# Altium integrated library Linear Technology Power Management LDO Linear Regulators.IntLib: 2339 symbols (part 47 of 131)
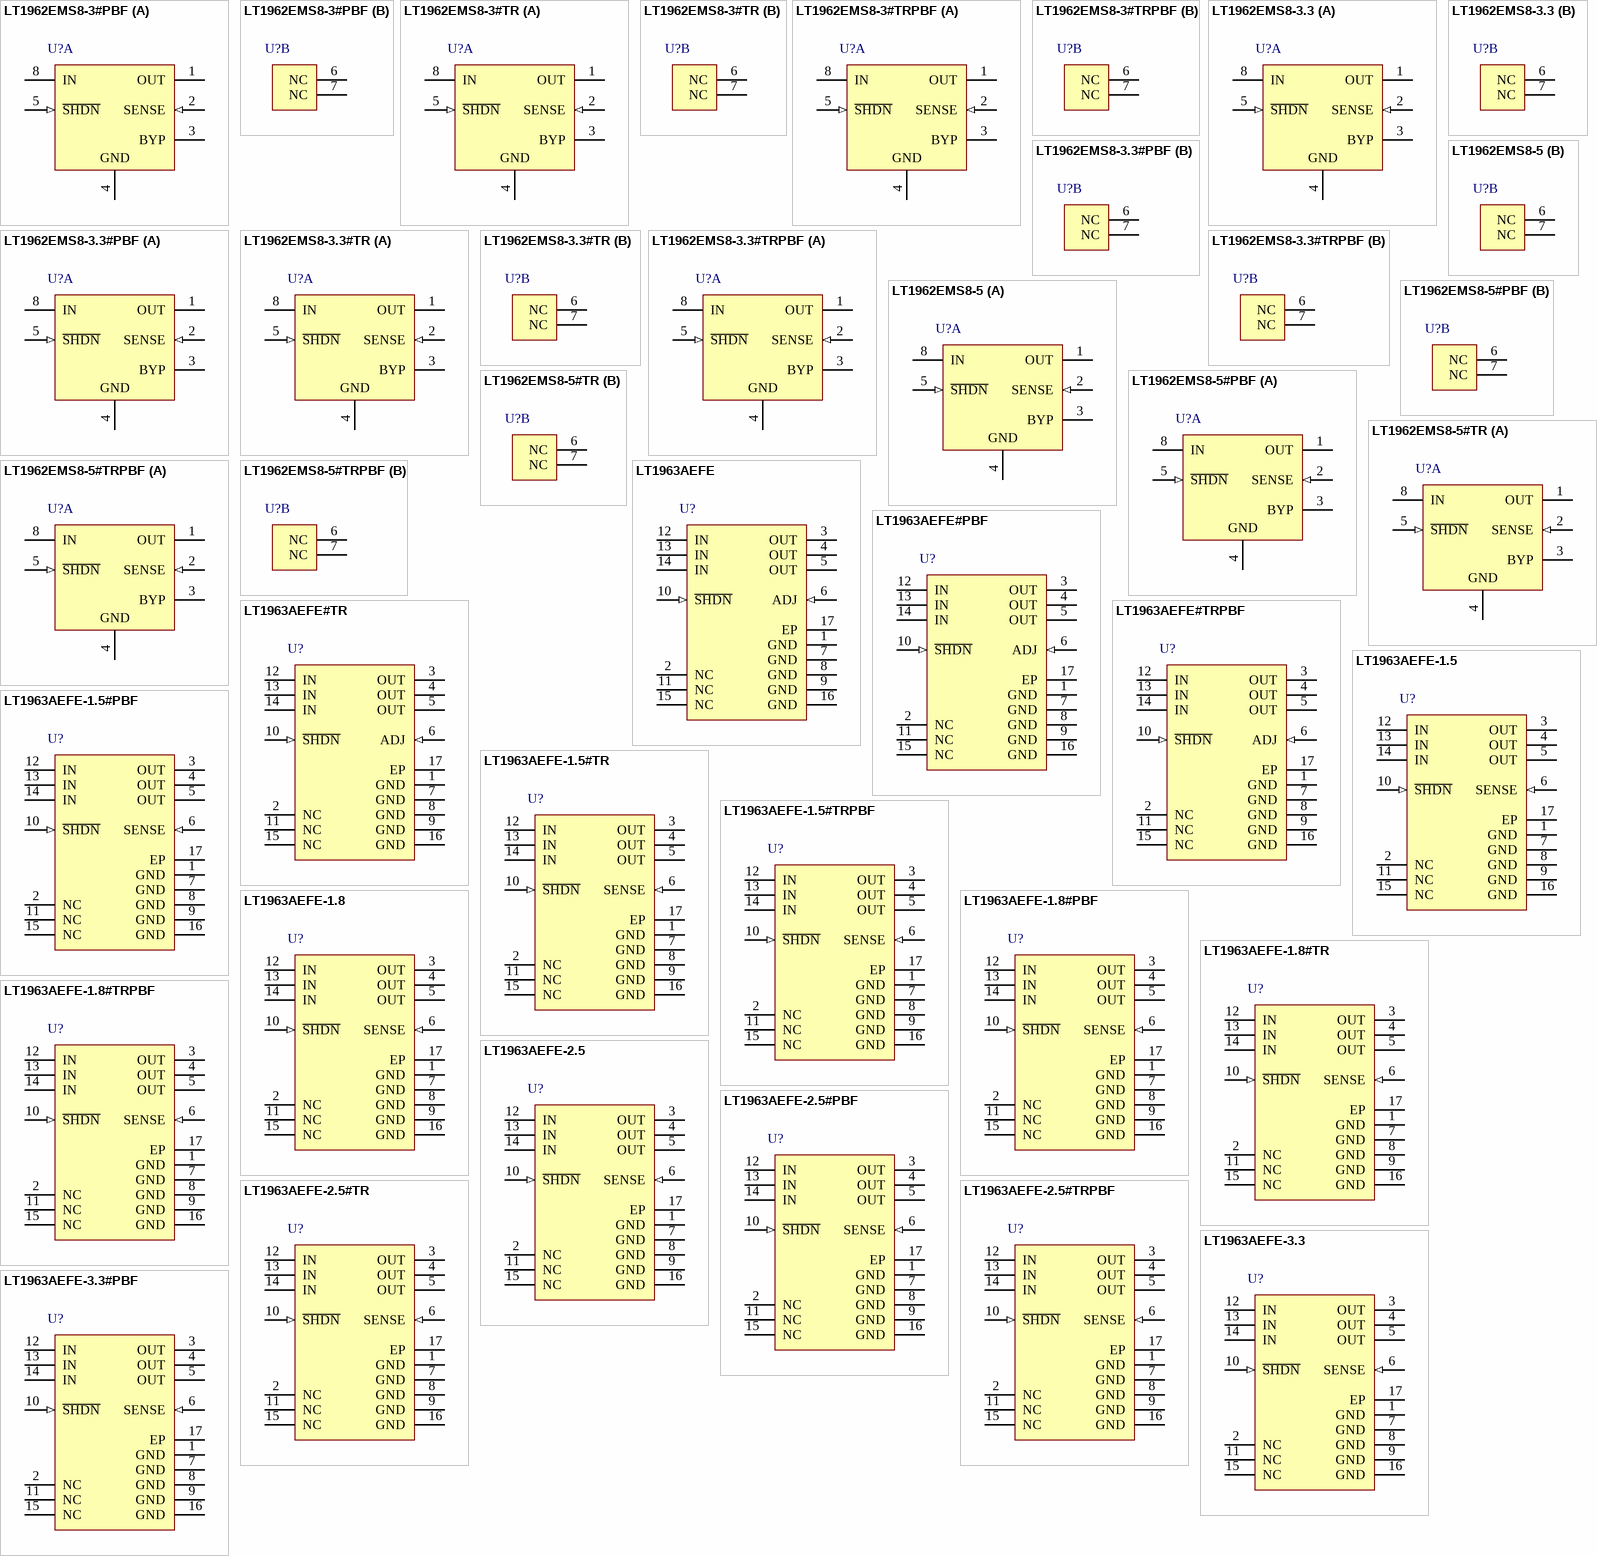
[diagram p115: symbols LT1962EMS8-3#PBF to LT1963AEFE-3.3#PBF]

## LT1962EMS8-3#TRPBF
designator U?
300 mA, Low Noise, Micropower LDO Regulator, 1.8 to 20 V Vin, 3 V Vout, 8-pin SOP (MS8-8), -40 to 125 degC, Pb-Free, Tape and Reel; Manufacturer: Linear Technology; PartNumber: LT1962EMS8-3#TRPBF; Discrete Pass Element: no; Dropout Voltage(V): 0.27; Iout(mA): 300; Isupply(mA): 0.03; Noise(uV): 20; Number of Outputs: 1; Output Voltage: 3 V; PSRR(dB): 65; Shutdown Current(uA): 0.1; Vin Min(V): 1.8; DatasheetVersion: Rev. A; PackageVersion: Rev. G, 03/2012; PackageReference: MS8-8; PackageDescription: 8-Pin Plastic MSOP, Body 3 x 3 mm, Pitch 0.65 mm; Supplier 1: Digi-Key; Supplier Part Number 1: LT1962EMS8-3#TRPBF-ND; Supplier 2: Newark; Supplier Part Number 2: 57M7399; Packing: Tape and Reel; RoHS: TRUE; Vin Max(V): 20; Mounting Technology: Surface Mount; ComponentLink1Description: Manufacturer URL; ComponentLink1URL: http://www.linear.com/; ComponentLink2Description: Datasheet; ComponentLink2URL: http://cds.linear.com/docs/en/datasheet/1962fas.pdf; ComponentLink3Description: Package Specification; ComponentLink3URL: http://cds.linear.com/docs/en/packaging/05081660_G_MS8.pdf
footprint LT-MS8-8_N (SOP, 8-Leads, Body 3x3mm, Pitch 0.65mm, IPC Medium Density)
footprint LT-MS8-8_L (SOP, 8-Leads, Body 3x3mm, Pitch 0.65mm, IPC High Density)
footprint LT-MS8-8_M (SOP, 8-Leads, Body 3x3mm, Pitch 0.65mm, IPC Low Density)
part A pins: 1 OUT (power) "Output. The output supplies power to the load.", 2 SENSE (in) "Sense. For fixed voltage versions, the SENSE pin is the input to the error amplifier. Optimum regulation will be obtained at the point where the SENSE pin is connected to the OUT pin of the regulator. In critical (See Datasheet)", 3 BYP "Bypass. The BYP pin is used to bypass the reference of the LT1762 regulators to achieve low noise performance from the regulator. The BYP pin is clamped internally to +/-0.6V (one VBE). A small capacitor from the output to (See Datasheet)", 4 GND (power) "Ground.", 5 ~{SHDN} (in) "Shutdown. The S\H\D\N\ pin is used to put the regulators into a low power shutdown state. The output will be off when the S\H\D\N\ pin is pulled low. The S\H\D\N\ pin can be driven either by 5V logic or opencollector logic (See Datasheet)", 8 IN (power) "Input. Power is supplied to the device through the IN pin. A bypass capacitor is required on this pin if the device is more than six inches away from the main input filter capacitor. In general, the output impedance of a (See Datasheet)"
part B pins: 6 NC, 7 NC

## LT1962EMS8-3.3
designator U?
300 mA, Low Noise, Micropower LDO Regulator, 1.8 to 20 V Vin, 3.3 V Vout, 8-pin SOP (MS8-8), -40 to 125 degC; Manufacturer: Linear Technology; PartNumber: LT1962EMS8-3.3; Discrete Pass Element: no; Dropout Voltage(V): 0.27; Iout(mA): 300; Isupply(mA): 0.03; Noise(uV): 20; Number of Outputs: 1; Output Voltage: 3.3 V; PSRR(dB): 65; Shutdown Current(uA): 0.1; Vin Min(V): 1.8; DatasheetVersion: Rev. A; PackageVersion: Rev. G, 03/2012; PackageReference: MS8-8; PackageDescription: 8-Pin Plastic MSOP, Body 3 x 3 mm, Pitch 0.65 mm; Supplier 1: Digi-Key; Supplier Part Number 1: LT1962EMS8-3.3-ND; Supplier 2: Newark; Supplier Part Number 2: 57M7393; RoHS: FALSE; Vin Max(V): 20; Mounting Technology: Surface Mount; ComponentLink1Description: Manufacturer URL; ComponentLink1URL: http://www.linear.com/; ComponentLink2Description: Datasheet; ComponentLink2URL: http://cds.linear.com/docs/en/datasheet/1962fas.pdf; ComponentLink3Description: Package Specification; ComponentLink3URL: http://cds.linear.com/docs/en/packaging/05081660_G_MS8.pdf
footprint LT-MS8-8_N (SOP, 8-Leads, Body 3x3mm, Pitch 0.65mm, IPC Medium Density)
footprint LT-MS8-8_L (SOP, 8-Leads, Body 3x3mm, Pitch 0.65mm, IPC High Density)
footprint LT-MS8-8_M (SOP, 8-Leads, Body 3x3mm, Pitch 0.65mm, IPC Low Density)
part A pins: 1 OUT (power) "Output. The output supplies power to the load.", 2 SENSE (in) "Sense. For fixed voltage versions, the SENSE pin is the input to the error amplifier. Optimum regulation will be obtained at the point where the SENSE pin is connected to the OUT pin of the regulator. In critical (See Datasheet)", 3 BYP "Bypass. The BYP pin is used to bypass the reference of the LT1762 regulators to achieve low noise performance from the regulator. The BYP pin is clamped internally to +/-0.6V (one VBE). A small capacitor from the output to (See Datasheet)", 4 GND (power) "Ground.", 5 ~{SHDN} (in) "Shutdown. The S\H\D\N\ pin is used to put the regulators into a low power shutdown state. The output will be off when the S\H\D\N\ pin is pulled low. The S\H\D\N\ pin can be driven either by 5V logic or opencollector logic (See Datasheet)", 8 IN (power) "Input. Power is supplied to the device through the IN pin. A bypass capacitor is required on this pin if the device is more than six inches away from the main input filter capacitor. In general, the output impedance of a (See Datasheet)"
part B pins: 6 NC, 7 NC

## LT1962EMS8-3.3#PBF
designator U?
300 mA, Low Noise, Micropower LDO Regulator, 1.8 to 20 V Vin, 3.3 V Vout, 8-pin SOP (MS8-8), -40 to 125 degC, Pb-Free; Manufacturer: Linear Technology; PartNumber: LT1962EMS8-3.3#PBF; Discrete Pass Element: no; Dropout Voltage(V): 0.27; Iout(mA): 300; Isupply(mA): 0.03; Noise(uV): 20; Number of Outputs: 1; Output Voltage: 3.3 V; PSRR(dB): 65; Shutdown Current(uA): 0.1; Vin Min(V): 1.8; DatasheetVersion: Rev. A; PackageVersion: Rev. G, 03/2012; PackageReference: MS8-8; PackageDescription: 8-Pin Plastic MSOP, Body 3 x 3 mm, Pitch 0.65 mm; Supplier 1: Digi-Key; Supplier Part Number 1: LT1962EMS8-3.3#PBF-ND; Supplier 2: Farnell; Supplier Part Number 2: 1663521; Supplier 3: Newark; Supplier Part Number 3: 57M7394; RoHS: TRUE; Vin Max(V): 20; Mounting Technology: Surface Mount; ComponentLink1Description: Manufacturer URL; ComponentLink1URL: http://www.linear.com/; ComponentLink2Description: Datasheet; ComponentLink2URL: http://cds.linear.com/docs/en/datasheet/1962fas.pdf; ComponentLink3Description: Package Specification; ComponentLink3URL: http://cds.linear.com/docs/en/packaging/05081660_G_MS8.pdf
footprint LT-MS8-8_N (SOP, 8-Leads, Body 3x3mm, Pitch 0.65mm, IPC Medium Density)
footprint LT-MS8-8_L (SOP, 8-Leads, Body 3x3mm, Pitch 0.65mm, IPC High Density)
footprint LT-MS8-8_M (SOP, 8-Leads, Body 3x3mm, Pitch 0.65mm, IPC Low Density)
part A pins: 1 OUT (power) "Output. The output supplies power to the load.", 2 SENSE (in) "Sense. For fixed voltage versions, the SENSE pin is the input to the error amplifier. Optimum regulation will be obtained at the point where the SENSE pin is connected to the OUT pin of the regulator. In critical (See Datasheet)", 3 BYP "Bypass. The BYP pin is used to bypass the reference of the LT1762 regulators to achieve low noise performance from the regulator. The BYP pin is clamped internally to +/-0.6V (one VBE). A small capacitor from the output to (See Datasheet)", 4 GND (power) "Ground.", 5 ~{SHDN} (in) "Shutdown. The S\H\D\N\ pin is used to put the regulators into a low power shutdown state. The output will be off when the S\H\D\N\ pin is pulled low. The S\H\D\N\ pin can be driven either by 5V logic or opencollector logic (See Datasheet)", 8 IN (power) "Input. Power is supplied to the device through the IN pin. A bypass capacitor is required on this pin if the device is more than six inches away from the main input filter capacitor. In general, the output impedance of a (See Datasheet)"
part B pins: 6 NC, 7 NC

## LT1962EMS8-3.3#TR
designator U?
300 mA, Low Noise, Micropower LDO Regulator, 1.8 to 20 V Vin, 3.3 V Vout, 8-pin SOP (MS8-8), -40 to 125 degC, Tape and Reel; Manufacturer: Linear Technology; PartNumber: LT1962EMS8-3.3#TR; Discrete Pass Element: no; Dropout Voltage(V): 0.27; Iout(mA): 300; Isupply(mA): 0.03; Noise(uV): 20; Number of Outputs: 1; Output Voltage: 3.3 V; PSRR(dB): 65; Shutdown Current(uA): 0.1; Vin Min(V): 1.8; DatasheetVersion: Rev. A; PackageVersion: Rev. G, 03/2012; PackageReference: MS8-8; PackageDescription: 8-Pin Plastic MSOP, Body 3 x 3 mm, Pitch 0.65 mm; Supplier 1: Digi-Key; Supplier Part Number 1: LT1962EMS8-3.3TR-ND; Supplier 2: Newark; Supplier Part Number 2: 57M7395; Packing: Tape and Reel; RoHS: FALSE; Vin Max(V): 20; Mounting Technology: Surface Mount; ComponentLink1Description: Manufacturer URL; ComponentLink1URL: http://www.linear.com/; ComponentLink2Description: Datasheet; ComponentLink2URL: http://cds.linear.com/docs/en/datasheet/1962fas.pdf; ComponentLink3Description: Package Specification; ComponentLink3URL: http://cds.linear.com/docs/en/packaging/05081660_G_MS8.pdf
footprint LT-MS8-8_N (SOP, 8-Leads, Body 3x3mm, Pitch 0.65mm, IPC Medium Density)
footprint LT-MS8-8_L (SOP, 8-Leads, Body 3x3mm, Pitch 0.65mm, IPC High Density)
footprint LT-MS8-8_M (SOP, 8-Leads, Body 3x3mm, Pitch 0.65mm, IPC Low Density)
part A pins: 1 OUT (power) "Output. The output supplies power to the load.", 2 SENSE (in) "Sense. For fixed voltage versions, the SENSE pin is the input to the error amplifier. Optimum regulation will be obtained at the point where the SENSE pin is connected to the OUT pin of the regulator. In critical (See Datasheet)", 3 BYP "Bypass. The BYP pin is used to bypass the reference of the LT1762 regulators to achieve low noise performance from the regulator. The BYP pin is clamped internally to +/-0.6V (one VBE). A small capacitor from the output to (See Datasheet)", 4 GND (power) "Ground.", 5 ~{SHDN} (in) "Shutdown. The S\H\D\N\ pin is used to put the regulators into a low power shutdown state. The output will be off when the S\H\D\N\ pin is pulled low. The S\H\D\N\ pin can be driven either by 5V logic or opencollector logic (See Datasheet)", 8 IN (power) "Input. Power is supplied to the device through the IN pin. A bypass capacitor is required on this pin if the device is more than six inches away from the main input filter capacitor. In general, the output impedance of a (See Datasheet)"
part B pins: 6 NC, 7 NC

## LT1962EMS8-3.3#TRPBF
designator U?
300 mA, Low Noise, Micropower LDO Regulator, 1.8 to 20 V Vin, 3.3 V Vout, 8-pin SOP (MS8-8), -40 to 125 degC, Pb-Free, Tape and Reel; Manufacturer: Linear Technology; PartNumber: LT1962EMS8-3.3#TRPBF; Discrete Pass Element: no; Dropout Voltage(V): 0.27; Iout(mA): 300; Isupply(mA): 0.03; Noise(uV): 20; Number of Outputs: 1; Output Voltage: 3.3 V; PSRR(dB): 65; Shutdown Current(uA): 0.1; Vin Min(V): 1.8; DatasheetVersion: Rev. A; PackageVersion: Rev. G, 03/2012; PackageReference: MS8-8; PackageDescription: 8-Pin Plastic MSOP, Body 3 x 3 mm, Pitch 0.65 mm; Supplier 1: Digi-Key; Supplier Part Number 1: LT1962EMS8-3.3#TRPBF-ND; Supplier 2: Newark; Supplier Part Number 2: 57M7396; Packing: Tape and Reel; RoHS: TRUE; Vin Max(V): 20; Mounting Technology: Surface Mount; ComponentLink1Description: Manufacturer URL; ComponentLink1URL: http://www.linear.com/; ComponentLink2Description: Datasheet; ComponentLink2URL: http://cds.linear.com/docs/en/datasheet/1962fas.pdf; ComponentLink3Description: Package Specification; ComponentLink3URL: http://cds.linear.com/docs/en/packaging/05081660_G_MS8.pdf
footprint LT-MS8-8_N (SOP, 8-Leads, Body 3x3mm, Pitch 0.65mm, IPC Medium Density)
footprint LT-MS8-8_L (SOP, 8-Leads, Body 3x3mm, Pitch 0.65mm, IPC High Density)
footprint LT-MS8-8_M (SOP, 8-Leads, Body 3x3mm, Pitch 0.65mm, IPC Low Density)
part A pins: 1 OUT (power) "Output. The output supplies power to the load.", 2 SENSE (in) "Sense. For fixed voltage versions, the SENSE pin is the input to the error amplifier. Optimum regulation will be obtained at the point where the SENSE pin is connected to the OUT pin of the regulator. In critical (See Datasheet)", 3 BYP "Bypass. The BYP pin is used to bypass the reference of the LT1762 regulators to achieve low noise performance from the regulator. The BYP pin is clamped internally to +/-0.6V (one VBE). A small capacitor from the output to (See Datasheet)", 4 GND (power) "Ground.", 5 ~{SHDN} (in) "Shutdown. The S\H\D\N\ pin is used to put the regulators into a low power shutdown state. The output will be off when the S\H\D\N\ pin is pulled low. The S\H\D\N\ pin can be driven either by 5V logic or opencollector logic (See Datasheet)", 8 IN (power) "Input. Power is supplied to the device through the IN pin. A bypass capacitor is required on this pin if the device is more than six inches away from the main input filter capacitor. In general, the output impedance of a (See Datasheet)"
part B pins: 6 NC, 7 NC

## LT1962EMS8-5
designator U?
300 mA, Low Noise, Micropower LDO Regulator, 1.8 to 20 V Vin, 5 V Vout, 8-pin SOP (MS8-8), -40 to 125 degC; Manufacturer: Linear Technology; PartNumber: LT1962EMS8-5; Discrete Pass Element: no; Dropout Voltage(V): 0.27; Iout(mA): 300; Isupply(mA): 0.03; Noise(uV): 20; Number of Outputs: 1; Output Voltage: 5 V; PSRR(dB): 65; Shutdown Current(uA): 0.1; Vin Min(V): 1.8; DatasheetVersion: Rev. A; PackageVersion: Rev. G, 03/2012; PackageReference: MS8-8; PackageDescription: 8-Pin Plastic MSOP, Body 3 x 3 mm, Pitch 0.65 mm; Supplier 1: Digi-Key; Supplier Part Number 1: LT1962EMS8-5-ND; Supplier 2: Newark; Supplier Part Number 2: 57M7400; RoHS: FALSE; Vin Max(V): 20; Mounting Technology: Surface Mount; ComponentLink1Description: Manufacturer URL; ComponentLink1URL: http://www.linear.com/; ComponentLink2Description: Datasheet; ComponentLink2URL: http://cds.linear.com/docs/en/datasheet/1962fas.pdf; ComponentLink3Description: Package Specification; ComponentLink3URL: http://cds.linear.com/docs/en/packaging/05081660_G_MS8.pdf
footprint LT-MS8-8_N (SOP, 8-Leads, Body 3x3mm, Pitch 0.65mm, IPC Medium Density)
footprint LT-MS8-8_L (SOP, 8-Leads, Body 3x3mm, Pitch 0.65mm, IPC High Density)
footprint LT-MS8-8_M (SOP, 8-Leads, Body 3x3mm, Pitch 0.65mm, IPC Low Density)
part A pins: 1 OUT (power) "Output. The output supplies power to the load.", 2 SENSE (in) "Sense. For fixed voltage versions, the SENSE pin is the input to the error amplifier. Optimum regulation will be obtained at the point where the SENSE pin is connected to the OUT pin of the regulator. In critical (See Datasheet)", 3 BYP "Bypass. The BYP pin is used to bypass the reference of the LT1762 regulators to achieve low noise performance from the regulator. The BYP pin is clamped internally to +/-0.6V (one VBE). A small capacitor from the output to (See Datasheet)", 4 GND (power) "Ground.", 5 ~{SHDN} (in) "Shutdown. The S\H\D\N\ pin is used to put the regulators into a low power shutdown state. The output will be off when the S\H\D\N\ pin is pulled low. The S\H\D\N\ pin can be driven either by 5V logic or opencollector logic (See Datasheet)", 8 IN (power) "Input. Power is supplied to the device through the IN pin. A bypass capacitor is required on this pin if the device is more than six inches away from the main input filter capacitor. In general, the output impedance of a (See Datasheet)"
part B pins: 6 NC, 7 NC

## LT1962EMS8-5#PBF
designator U?
300 mA, Low Noise, Micropower LDO Regulator, 1.8 to 20 V Vin, 5 V Vout, 8-pin SOP (MS8-8), -40 to 125 degC, Pb-Free; Manufacturer: Linear Technology; PartNumber: LT1962EMS8-5#PBF; Discrete Pass Element: no; Dropout Voltage(V): 0.27; Iout(mA): 300; Isupply(mA): 0.03; Noise(uV): 20; Number of Outputs: 1; Output Voltage: 5 V; PSRR(dB): 65; Shutdown Current(uA): 0.1; Vin Min(V): 1.8; DatasheetVersion: Rev. A; PackageVersion: Rev. G, 03/2012; PackageReference: MS8-8; PackageDescription: 8-Pin Plastic MSOP, Body 3 x 3 mm, Pitch 0.65 mm; Supplier 1: Digi-Key; Supplier Part Number 1: LT1962EMS8-5#PBF-ND; Supplier 2: Farnell; Supplier Part Number 2: 1273624; Supplier 3: Newark; Supplier Part Number 3: 57M7401; RoHS: TRUE; Vin Max(V): 20; Mounting Technology: Surface Mount; ComponentLink1Description: Manufacturer URL; ComponentLink1URL: http://www.linear.com/; ComponentLink2Description: Datasheet; ComponentLink2URL: http://cds.linear.com/docs/en/datasheet/1962fas.pdf; ComponentLink3Description: Package Specification; ComponentLink3URL: http://cds.linear.com/docs/en/packaging/05081660_G_MS8.pdf
footprint LT-MS8-8_N (SOP, 8-Leads, Body 3x3mm, Pitch 0.65mm, IPC Medium Density)
footprint LT-MS8-8_L (SOP, 8-Leads, Body 3x3mm, Pitch 0.65mm, IPC High Density)
footprint LT-MS8-8_M (SOP, 8-Leads, Body 3x3mm, Pitch 0.65mm, IPC Low Density)
part A pins: 1 OUT (power) "Output. The output supplies power to the load.", 2 SENSE (in) "Sense. For fixed voltage versions, the SENSE pin is the input to the error amplifier. Optimum regulation will be obtained at the point where the SENSE pin is connected to the OUT pin of the regulator. In critical (See Datasheet)", 3 BYP "Bypass. The BYP pin is used to bypass the reference of the LT1762 regulators to achieve low noise performance from the regulator. The BYP pin is clamped internally to +/-0.6V (one VBE). A small capacitor from the output to (See Datasheet)", 4 GND (power) "Ground.", 5 ~{SHDN} (in) "Shutdown. The S\H\D\N\ pin is used to put the regulators into a low power shutdown state. The output will be off when the S\H\D\N\ pin is pulled low. The S\H\D\N\ pin can be driven either by 5V logic or opencollector logic (See Datasheet)", 8 IN (power) "Input. Power is supplied to the device through the IN pin. A bypass capacitor is required on this pin if the device is more than six inches away from the main input filter capacitor. In general, the output impedance of a (See Datasheet)"
part B pins: 6 NC, 7 NC

## LT1962EMS8-5#TR
designator U?
300 mA, Low Noise, Micropower LDO Regulator, 1.8 to 20 V Vin, 5 V Vout, 8-pin SOP (MS8-8), -40 to 125 degC, Tape and Reel; Manufacturer: Linear Technology; PartNumber: LT1962EMS8-5#TR; Discrete Pass Element: no; Dropout Voltage(V): 0.27; Iout(mA): 300; Isupply(mA): 0.03; Noise(uV): 20; Number of Outputs: 1; Output Voltage: 5 V; PSRR(dB): 65; Shutdown Current(uA): 0.1; Vin Min(V): 1.8; DatasheetVersion: Rev. A; PackageVersion: Rev. G, 03/2012; PackageReference: MS8-8; PackageDescription: 8-Pin Plastic MSOP, Body 3 x 3 mm, Pitch 0.65 mm; Supplier 1: Digi-Key; Supplier Part Number 1: LT1962EMS8-5TR-ND; Supplier 2: Newark; Supplier Part Number 2: 57M7402; Packing: Tape and Reel; RoHS: FALSE; Vin Max(V): 20; Mounting Technology: Surface Mount; ComponentLink1Description: Manufacturer URL; ComponentLink1URL: http://www.linear.com/; ComponentLink2Description: Datasheet; ComponentLink2URL: http://cds.linear.com/docs/en/datasheet/1962fas.pdf; ComponentLink3Description: Package Specification; ComponentLink3URL: http://cds.linear.com/docs/en/packaging/05081660_G_MS8.pdf
footprint LT-MS8-8_N (SOP, 8-Leads, Body 3x3mm, Pitch 0.65mm, IPC Medium Density)
footprint LT-MS8-8_L (SOP, 8-Leads, Body 3x3mm, Pitch 0.65mm, IPC High Density)
footprint LT-MS8-8_M (SOP, 8-Leads, Body 3x3mm, Pitch 0.65mm, IPC Low Density)
part A pins: 1 OUT (power) "Output. The output supplies power to the load.", 2 SENSE (in) "Sense. For fixed voltage versions, the SENSE pin is the input to the error amplifier. Optimum regulation will be obtained at the point where the SENSE pin is connected to the OUT pin of the regulator. In critical (See Datasheet)", 3 BYP "Bypass. The BYP pin is used to bypass the reference of the LT1762 regulators to achieve low noise performance from the regulator. The BYP pin is clamped internally to +/-0.6V (one VBE). A small capacitor from the output to (See Datasheet)", 4 GND (power) "Ground.", 5 ~{SHDN} (in) "Shutdown. The S\H\D\N\ pin is used to put the regulators into a low power shutdown state. The output will be off when the S\H\D\N\ pin is pulled low. The S\H\D\N\ pin can be driven either by 5V logic or opencollector logic (See Datasheet)", 8 IN (power) "Input. Power is supplied to the device through the IN pin. A bypass capacitor is required on this pin if the device is more than six inches away from the main input filter capacitor. In general, the output impedance of a (See Datasheet)"
part B pins: 6 NC, 7 NC

## LT1962EMS8-5#TRPBF
designator U?
300 mA, Low Noise, Micropower LDO Regulator, 1.8 to 20 V Vin, 5 V Vout, 8-pin SOP (MS8-8), -40 to 125 degC, Pb-Free, Tape and Reel; Manufacturer: Linear Technology; PartNumber: LT1962EMS8-5#TRPBF; Discrete Pass Element: no; Dropout Voltage(V): 0.27; Iout(mA): 300; Isupply(mA): 0.03; Noise(uV): 20; Number of Outputs: 1; Output Voltage: 5 V; PSRR(dB): 65; Shutdown Current(uA): 0.1; Vin Min(V): 1.8; DatasheetVersion: Rev. A; PackageVersion: Rev. G, 03/2012; PackageReference: MS8-8; PackageDescription: 8-Pin Plastic MSOP, Body 3 x 3 mm, Pitch 0.65 mm; Supplier 1: Digi-Key; Supplier Part Number 1: LT1962EMS8-5#TRPBF-ND; Supplier 2: Newark; Supplier Part Number 2: 57M7403; Packing: Tape and Reel; RoHS: TRUE; Vin Max(V): 20; Mounting Technology: Surface Mount; ComponentLink1Description: Manufacturer URL; ComponentLink1URL: http://www.linear.com/; ComponentLink2Description: Datasheet; ComponentLink2URL: http://cds.linear.com/docs/en/datasheet/1962fas.pdf; ComponentLink3Description: Package Specification; ComponentLink3URL: http://cds.linear.com/docs/en/packaging/05081660_G_MS8.pdf
footprint LT-MS8-8_N (SOP, 8-Leads, Body 3x3mm, Pitch 0.65mm, IPC Medium Density)
footprint LT-MS8-8_L (SOP, 8-Leads, Body 3x3mm, Pitch 0.65mm, IPC High Density)
footprint LT-MS8-8_M (SOP, 8-Leads, Body 3x3mm, Pitch 0.65mm, IPC Low Density)
part A pins: 1 OUT (power) "Output. The output supplies power to the load.", 2 SENSE (in) "Sense. For fixed voltage versions, the SENSE pin is the input to the error amplifier. Optimum regulation will be obtained at the point where the SENSE pin is connected to the OUT pin of the regulator. In critical (See Datasheet)", 3 BYP "Bypass. The BYP pin is used to bypass the reference of the LT1762 regulators to achieve low noise performance from the regulator. The BYP pin is clamped internally to +/-0.6V (one VBE). A small capacitor from the output to (See Datasheet)", 4 GND (power) "Ground.", 5 ~{SHDN} (in) "Shutdown. The S\H\D\N\ pin is used to put the regulators into a low power shutdown state. The output will be off when the S\H\D\N\ pin is pulled low. The S\H\D\N\ pin can be driven either by 5V logic or opencollector logic (See Datasheet)", 8 IN (power) "Input. Power is supplied to the device through the IN pin. A bypass capacitor is required on this pin if the device is more than six inches away from the main input filter capacitor. In general, the output impedance of a (See Datasheet)"
part B pins: 6 NC, 7 NC

## LT1963AEFE
designator U?
1.5 A, Low Noise, Fast Transient Response LDO Regulator, 2.1 to 20 V Vin, Adjustable Vout, 16-pin SOP (FE-16-EPV-BB), -40 to 125 degC; Manufacturer: Linear Technology; PartNumber: LT1963AEFE; Discrete Pass Element: no; Dropout Voltage(V): 0.34; Iout(mA): 1500; Isupply(mA): 1; Noise(uV): 40; Output Voltage: Adj; PSRR(dB): 63; Shutdown Current(uA): 0.01; Vin Max(V): 20; Vin Min(V): 2.1; Vout Min(V): 1.21; DatasheetVersion: Rev. E; PackageVersion: Rev. J, 11/2012; PackageReference: FE-16; PackageDescription: 16-Pin Plastic TSSOP, Body 5 x 4.4 mm, Pitch 0.65 mm; Supplier 1: Newark; Supplier Part Number 1: 57M7407; Number of Outputs: 1; RoHS: FALSE; Vout Max(V): 20; Mounting Technology: Surface Mount; ComponentLink1Description: Manufacturer URL; ComponentLink1URL: http://www.linear.com/; ComponentLink2Description: Datasheet; ComponentLink2URL: http://cds.linear.com/docs/en/datasheet/1963afe.pdf; ComponentLink3Description: Package Specification; ComponentLink3URL: http://cds.linear.com/docs/en/packaging/05081663__J_FE16(BB).pdf
footprint LT-FE-16-EPV-BB_N (SOP, 16-Leads, Body 5.1x4.5mm, Pitch 0.65mm, Thermal Pad 3.58x2.94mm, IPC Medium Density)
footprint LT-FE-16-EPV-BB_L (SOP, 16-Leads, Body 5.1x4.5mm, Pitch 0.65mm, Thermal Pad 3.58x2.94mm, IPC High Density)
footprint LT-FE-16-EPV-BB_M (SOP, 16-Leads, Body 5.1x4.5mm, Pitch 0.65mm, Thermal Pad 3.58x2.94mm, IPC Low Density)
pins: 1 GND (power), 2 NC, 3 OUT (power) "Output. The output supplies power to the load. A minimum output capacitor of 10uF is required to prevent oscillations. Larger output capacitors will be required for applications with large transient loads to limit peak (See Datasheet)", 4 OUT (power) "Output. The output supplies power to the load. A minimum output capacitor of 10uF is required to prevent oscillations. Larger output capacitors will be required for applications with large transient loads to limit peak (See Datasheet)", 5 OUT (power) "Output. The output supplies power to the load. A minimum output capacitor of 10uF is required to prevent oscillations. Larger output capacitors will be required for applications with large transient loads to limit peak (See Datasheet)", 6 ADJ (in) "Adjust.", 7 GND (power), 8 GND (power), 9 GND (power), 10 ~{SHDN} (in) "Shutdown.", 11 NC, 12 IN (power) "Input. Power is supplied to the device through the IN pin. A bypass capacitor is required on this pin if the device is more than six inches away from the main input filter capacitor. In general, the output impedance of a (See Datasheet)", 13 IN (power) "Input. Power is supplied to the device through the IN pin. A bypass capacitor is required on this pin if the device is more than six inches away from the main input filter capacitor. In general, the output impedance of a (See Datasheet)", 14 IN (power) "Input. Power is supplied to the device through the IN pin. A bypass capacitor is required on this pin if the device is more than six inches away from the main input filter capacitor. In general, the output impedance of a (See Datasheet)", 15 NC, 16 GND (power), 17 EP (power)

## LT1963AEFE#PBF
designator U?
1.5 A, Low Noise, Fast Transient Response LDO Regulator, 2.1 to 20 V Vin, Adjustable Vout, 16-pin SOP (FE-16-EPV-BB), -40 to 125 degC, Pb-Free; Manufacturer: Linear Technology; PartNumber: LT1963AEFE#PBF; Discrete Pass Element: no; Dropout Voltage(V): 0.34; Iout(mA): 1500; Isupply(mA): 1; Noise(uV): 40; Output Voltage: Adj; PSRR(dB): 63; Shutdown Current(uA): 0.01; Vin Max(V): 20; Vin Min(V): 2.1; Vout Min(V): 1.21; DatasheetVersion: Rev. E; PackageVersion: Rev. J, 11/2012; PackageReference: FE-16; PackageDescription: 16-Pin Plastic TSSOP, Body 5 x 4.4 mm, Pitch 0.65 mm; Supplier 1: Digi-Key; Supplier Part Number 1: LT1963AEFE#PBF-ND; Supplier 2: Farnell; Supplier Part Number 2: 2254859; Supplier 3: Newark; Supplier Part Number 3: 57M7424; Number of Outputs: 1; RoHS: TRUE; Vout Max(V): 20; Mounting Technology: Surface Mount; ComponentLink1Description: Manufacturer URL; ComponentLink1URL: http://www.linear.com/; ComponentLink2Description: Datasheet; ComponentLink2URL: http://cds.linear.com/docs/en/datasheet/1963afe.pdf; ComponentLink3Description: Package Specification; ComponentLink3URL: http://cds.linear.com/docs/en/packaging/05081663__J_FE16(BB).pdf
footprint LT-FE-16-EPV-BB_N (SOP, 16-Leads, Body 5.1x4.5mm, Pitch 0.65mm, Thermal Pad 3.58x2.94mm, IPC Medium Density)
footprint LT-FE-16-EPV-BB_L (SOP, 16-Leads, Body 5.1x4.5mm, Pitch 0.65mm, Thermal Pad 3.58x2.94mm, IPC High Density)
footprint LT-FE-16-EPV-BB_M (SOP, 16-Leads, Body 5.1x4.5mm, Pitch 0.65mm, Thermal Pad 3.58x2.94mm, IPC Low Density)
pins: 1 GND (power), 2 NC, 3 OUT (power) "Output. The output supplies power to the load. A minimum output capacitor of 10uF is required to prevent oscillations. Larger output capacitors will be required for applications with large transient loads to limit peak (See Datasheet)", 4 OUT (power) "Output. The output supplies power to the load. A minimum output capacitor of 10uF is required to prevent oscillations. Larger output capacitors will be required for applications with large transient loads to limit peak (See Datasheet)", 5 OUT (power) "Output. The output supplies power to the load. A minimum output capacitor of 10uF is required to prevent oscillations. Larger output capacitors will be required for applications with large transient loads to limit peak (See Datasheet)", 6 ADJ (in) "Adjust.", 7 GND (power), 8 GND (power), 9 GND (power), 10 ~{SHDN} (in) "Shutdown.", 11 NC, 12 IN (power) "Input. Power is supplied to the device through the IN pin. A bypass capacitor is required on this pin if the device is more than six inches away from the main input filter capacitor. In general, the output impedance of a (See Datasheet)", 13 IN (power) "Input. Power is supplied to the device through the IN pin. A bypass capacitor is required on this pin if the device is more than six inches away from the main input filter capacitor. In general, the output impedance of a (See Datasheet)", 14 IN (power) "Input. Power is supplied to the device through the IN pin. A bypass capacitor is required on this pin if the device is more than six inches away from the main input filter capacitor. In general, the output impedance of a (See Datasheet)", 15 NC, 16 GND (power), 17 EP (power)

## LT1963AEFE#TR
designator U?
1.5 A, Low Noise, Fast Transient Response LDO Regulator, 2.1 to 20 V Vin, Adjustable Vout, 16-pin SOP (FE-16-EPV-BB), -40 to 125 degC, Tape and Reel; Manufacturer: Linear Technology; PartNumber: LT1963AEFE#TR; Discrete Pass Element: no; Dropout Voltage(V): 0.34; Iout(mA): 1500; Isupply(mA): 1; Noise(uV): 40; Output Voltage: Adj; PSRR(dB): 63; Shutdown Current(uA): 0.01; Vin Max(V): 20; Vin Min(V): 2.1; Vout Min(V): 1.21; DatasheetVersion: Rev. E; PackageVersion: Rev. J, 11/2012; PackageReference: FE-16; PackageDescription: 16-Pin Plastic TSSOP, Body 5 x 4.4 mm, Pitch 0.65 mm; Supplier 1: Newark; Supplier Part Number 1: 57M7425; Number of Outputs: 1; Packing: Tape and Reel; RoHS: FALSE; Vout Max(V): 20; Mounting Technology: Surface Mount; ComponentLink1Description: Manufacturer URL; ComponentLink1URL: http://www.linear.com/; ComponentLink2Description: Datasheet; ComponentLink2URL: http://cds.linear.com/docs/en/datasheet/1963afe.pdf; ComponentLink3Description: Package Specification; ComponentLink3URL: http://cds.linear.com/docs/en/packaging/05081663__J_FE16(BB).pdf
footprint LT-FE-16-EPV-BB_N (SOP, 16-Leads, Body 5.1x4.5mm, Pitch 0.65mm, Thermal Pad 3.58x2.94mm, IPC Medium Density)
footprint LT-FE-16-EPV-BB_L (SOP, 16-Leads, Body 5.1x4.5mm, Pitch 0.65mm, Thermal Pad 3.58x2.94mm, IPC High Density)
footprint LT-FE-16-EPV-BB_M (SOP, 16-Leads, Body 5.1x4.5mm, Pitch 0.65mm, Thermal Pad 3.58x2.94mm, IPC Low Density)
pins: 1 GND (power), 2 NC, 3 OUT (power) "Output. The output supplies power to the load. A minimum output capacitor of 10uF is required to prevent oscillations. Larger output capacitors will be required for applications with large transient loads to limit peak (See Datasheet)", 4 OUT (power) "Output. The output supplies power to the load. A minimum output capacitor of 10uF is required to prevent oscillations. Larger output capacitors will be required for applications with large transient loads to limit peak (See Datasheet)", 5 OUT (power) "Output. The output supplies power to the load. A minimum output capacitor of 10uF is required to prevent oscillations. Larger output capacitors will be required for applications with large transient loads to limit peak (See Datasheet)", 6 ADJ (in) "Adjust.", 7 GND (power), 8 GND (power), 9 GND (power), 10 ~{SHDN} (in) "Shutdown.", 11 NC, 12 IN (power) "Input. Power is supplied to the device through the IN pin. A bypass capacitor is required on this pin if the device is more than six inches away from the main input filter capacitor. In general, the output impedance of a (See Datasheet)", 13 IN (power) "Input. Power is supplied to the device through the IN pin. A bypass capacitor is required on this pin if the device is more than six inches away from the main input filter capacitor. In general, the output impedance of a (See Datasheet)", 14 IN (power) "Input. Power is supplied to the device through the IN pin. A bypass capacitor is required on this pin if the device is more than six inches away from the main input filter capacitor. In general, the output impedance of a (See Datasheet)", 15 NC, 16 GND (power), 17 EP (power)

## LT1963AEFE#TRPBF
designator U?
1.5 A, Low Noise, Fast Transient Response LDO Regulator, 2.1 to 20 V Vin, Adjustable Vout, 16-pin SOP (FE-16-EPV-BB), -40 to 125 degC, Pb-Free, Tape and Reel; Manufacturer: Linear Technology; PartNumber: LT1963AEFE#TRPBF; Discrete Pass Element: no; Dropout Voltage(V): 0.34; Iout(mA): 1500; Isupply(mA): 1; Noise(uV): 40; Output Voltage: Adj; PSRR(dB): 63; Shutdown Current(uA): 0.01; Vin Max(V): 20; Vin Min(V): 2.1; Vout Min(V): 1.21; DatasheetVersion: Rev. E; PackageVersion: Rev. J, 11/2012; PackageReference: FE-16; PackageDescription: 16-Pin Plastic TSSOP, Body 5 x 4.4 mm, Pitch 0.65 mm; Supplier 1: Digi-Key; Supplier Part Number 1: LT1963AEFE#TRPBF-ND; Supplier 2: Newark; Supplier Part Number 2: 57M7426; Number of Outputs: 1; Packing: Tape and Reel; RoHS: TRUE; Vout Max(V): 20; Mounting Technology: Surface Mount; ComponentLink1Description: Manufacturer URL; ComponentLink1URL: http://www.linear.com/; ComponentLink2Description: Datasheet; ComponentLink2URL: http://cds.linear.com/docs/en/datasheet/1963afe.pdf; ComponentLink3Description: Package Specification; ComponentLink3URL: http://cds.linear.com/docs/en/packaging/05081663__J_FE16(BB).pdf
footprint LT-FE-16-EPV-BB_N (SOP, 16-Leads, Body 5.1x4.5mm, Pitch 0.65mm, Thermal Pad 3.58x2.94mm, IPC Medium Density)
footprint LT-FE-16-EPV-BB_L (SOP, 16-Leads, Body 5.1x4.5mm, Pitch 0.65mm, Thermal Pad 3.58x2.94mm, IPC High Density)
footprint LT-FE-16-EPV-BB_M (SOP, 16-Leads, Body 5.1x4.5mm, Pitch 0.65mm, Thermal Pad 3.58x2.94mm, IPC Low Density)
pins: 1 GND (power), 2 NC, 3 OUT (power) "Output. The output supplies power to the load. A minimum output capacitor of 10uF is required to prevent oscillations. Larger output capacitors will be required for applications with large transient loads to limit peak (See Datasheet)", 4 OUT (power) "Output. The output supplies power to the load. A minimum output capacitor of 10uF is required to prevent oscillations. Larger output capacitors will be required for applications with large transient loads to limit peak (See Datasheet)", 5 OUT (power) "Output. The output supplies power to the load. A minimum output capacitor of 10uF is required to prevent oscillations. Larger output capacitors will be required for applications with large transient loads to limit peak (See Datasheet)", 6 ADJ (in) "Adjust.", 7 GND (power), 8 GND (power), 9 GND (power), 10 ~{SHDN} (in) "Shutdown.", 11 NC, 12 IN (power) "Input. Power is supplied to the device through the IN pin. A bypass capacitor is required on this pin if the device is more than six inches away from the main input filter capacitor. In general, the output impedance of a (See Datasheet)", 13 IN (power) "Input. Power is supplied to the device through the IN pin. A bypass capacitor is required on this pin if the device is more than six inches away from the main input filter capacitor. In general, the output impedance of a (See Datasheet)", 14 IN (power) "Input. Power is supplied to the device through the IN pin. A bypass capacitor is required on this pin if the device is more than six inches away from the main input filter capacitor. In general, the output impedance of a (See Datasheet)", 15 NC, 16 GND (power), 17 EP (power)

## LT1963AEFE-1.5
designator U?
1.5 A, Low Noise, Fast Transient Response LDO Regulator, 2.1 to 20 V Vin, 1.5 V Vout, 16-pin SOP (FE-16-EPV-BB), -40 to 125 degC; Manufacturer: Linear Technology; PartNumber: LT1963AEFE-1.5; Discrete Pass Element: no; Dropout Voltage(V): 0.34; Iout(mA): 1500; Isupply(mA): 1; Noise(uV): 40; Output Voltage: 1.5 V; PSRR(dB): 63; Shutdown Current(uA): 0.01; Vin Max(V): 20; Vin Min(V): 2.1; DatasheetVersion: Rev. E; PackageVersion: Rev. J, 11/2012; PackageReference: FE-16; PackageDescription: 16-Pin Plastic TSSOP, Body 5 x 4.4 mm, Pitch 0.65 mm; Number of Outputs: 1; RoHS: FALSE; Mounting Technology: Surface Mount; ComponentLink1Description: Manufacturer URL; ComponentLink1URL: http://www.linear.com/; ComponentLink2Description: Datasheet; ComponentLink2URL: http://cds.linear.com/docs/en/datasheet/1963afe.pdf; ComponentLink3Description: Package Specification; ComponentLink3URL: http://cds.linear.com/docs/en/packaging/05081663__J_FE16(BB).pdf
footprint LT-FE-16-EPV-BB_N (SOP, 16-Leads, Body 5.1x4.5mm, Pitch 0.65mm, Thermal Pad 3.58x2.94mm, IPC Medium Density)
footprint LT-FE-16-EPV-BB_L (SOP, 16-Leads, Body 5.1x4.5mm, Pitch 0.65mm, Thermal Pad 3.58x2.94mm, IPC High Density)
footprint LT-FE-16-EPV-BB_M (SOP, 16-Leads, Body 5.1x4.5mm, Pitch 0.65mm, Thermal Pad 3.58x2.94mm, IPC Low Density)
pins: 1 GND (power), 2 NC, 3 OUT (power) "Output. The output supplies power to the load. A minimum output capacitor of 10uF is required to prevent oscillations. Larger output capacitors will be required for applications with large transient loads to limit peak (See Datasheet)", 4 OUT (power) "Output. The output supplies power to the load. A minimum output capacitor of 10uF is required to prevent oscillations. Larger output capacitors will be required for applications with large transient loads to limit peak (See Datasheet)", 5 OUT (power) "Output. The output supplies power to the load. A minimum output capacitor of 10uF is required to prevent oscillations. Larger output capacitors will be required for applications with large transient loads to limit peak (See Datasheet)", 6 SENSE (in), 7 GND (power), 8 GND (power), 9 GND (power), 10 ~{SHDN} (in), 11 NC, 12 IN (power), 13 IN (power), 14 IN (power), 15 NC, 16 GND (power), 17 EP (power)

## LT1963AEFE-1.5#PBF
designator U?
1.5 A, Low Noise, Fast Transient Response LDO Regulator, 2.1 to 20 V Vin, 1.5 V Vout, 16-pin SOP (FE-16-EPV-BB), -40 to 125 degC, Pb-Free; Manufacturer: Linear Technology; PartNumber: LT1963AEFE-1.5#PBF; Discrete Pass Element: no; Dropout Voltage(V): 0.34; Iout(mA): 1500; Isupply(mA): 1; Noise(uV): 40; Output Voltage: 1.5 V; PSRR(dB): 63; Shutdown Current(uA): 0.01; Vin Max(V): 20; Vin Min(V): 2.1; DatasheetVersion: Rev. E; PackageVersion: Rev. J, 11/2012; PackageReference: FE-16; PackageDescription: 16-Pin Plastic TSSOP, Body 5 x 4.4 mm, Pitch 0.65 mm; Supplier 1: Digi-Key; Supplier Part Number 1: LT1963AEFE-1.5#PBF-ND; Number of Outputs: 1; RoHS: TRUE; Mounting Technology: Surface Mount; ComponentLink1Description: Manufacturer URL; ComponentLink1URL: http://www.linear.com/; ComponentLink2Description: Datasheet; ComponentLink2URL: http://cds.linear.com/docs/en/datasheet/1963afe.pdf; ComponentLink3Description: Package Specification; ComponentLink3URL: http://cds.linear.com/docs/en/packaging/05081663__J_FE16(BB).pdf
footprint LT-FE-16-EPV-BB_N (SOP, 16-Leads, Body 5.1x4.5mm, Pitch 0.65mm, Thermal Pad 3.58x2.94mm, IPC Medium Density)
footprint LT-FE-16-EPV-BB_L (SOP, 16-Leads, Body 5.1x4.5mm, Pitch 0.65mm, Thermal Pad 3.58x2.94mm, IPC High Density)
footprint LT-FE-16-EPV-BB_M (SOP, 16-Leads, Body 5.1x4.5mm, Pitch 0.65mm, Thermal Pad 3.58x2.94mm, IPC Low Density)
pins: 1 GND (power), 2 NC, 3 OUT (power) "Output. The output supplies power to the load. A minimum output capacitor of 10uF is required to prevent oscillations. Larger output capacitors will be required for applications with large transient loads to limit peak (See Datasheet)", 4 OUT (power) "Output. The output supplies power to the load. A minimum output capacitor of 10uF is required to prevent oscillations. Larger output capacitors will be required for applications with large transient loads to limit peak (See Datasheet)", 5 OUT (power) "Output. The output supplies power to the load. A minimum output capacitor of 10uF is required to prevent oscillations. Larger output capacitors will be required for applications with large transient loads to limit peak (See Datasheet)", 6 SENSE (in), 7 GND (power), 8 GND (power), 9 GND (power), 10 ~{SHDN} (in), 11 NC, 12 IN (power), 13 IN (power), 14 IN (power), 15 NC, 16 GND (power), 17 EP (power)

## LT1963AEFE-1.5#TR
designator U?
1.5 A, Low Noise, Fast Transient Response LDO Regulator, 2.1 to 20 V Vin, 1.5 V Vout, 16-pin SOP (FE-16-EPV-BB), -40 to 125 degC, Tape and Reel; Manufacturer: Linear Technology; PartNumber: LT1963AEFE-1.5#TR; Discrete Pass Element: no; Dropout Voltage(V): 0.34; Iout(mA): 1500; Isupply(mA): 1; Noise(uV): 40; Output Voltage: 1.5 V; PSRR(dB): 63; Shutdown Current(uA): 0.01; Vin Max(V): 20; Vin Min(V): 2.1; DatasheetVersion: Rev. E; PackageVersion: Rev. J, 11/2012; PackageReference: FE-16; PackageDescription: 16-Pin Plastic TSSOP, Body 5 x 4.4 mm, Pitch 0.65 mm; Number of Outputs: 1; Packing: Tape and Reel; RoHS: FALSE; Mounting Technology: Surface Mount; ComponentLink1Description: Manufacturer URL; ComponentLink1URL: http://www.linear.com/; ComponentLink2Description: Datasheet; ComponentLink2URL: http://cds.linear.com/docs/en/datasheet/1963afe.pdf; ComponentLink3Description: Package Specification; ComponentLink3URL: http://cds.linear.com/docs/en/packaging/05081663__J_FE16(BB).pdf
footprint LT-FE-16-EPV-BB_N (SOP, 16-Leads, Body 5.1x4.5mm, Pitch 0.65mm, Thermal Pad 3.58x2.94mm, IPC Medium Density)
footprint LT-FE-16-EPV-BB_L (SOP, 16-Leads, Body 5.1x4.5mm, Pitch 0.65mm, Thermal Pad 3.58x2.94mm, IPC High Density)
footprint LT-FE-16-EPV-BB_M (SOP, 16-Leads, Body 5.1x4.5mm, Pitch 0.65mm, Thermal Pad 3.58x2.94mm, IPC Low Density)
pins: 1 GND (power), 2 NC, 3 OUT (power) "Output. The output supplies power to the load. A minimum output capacitor of 10uF is required to prevent oscillations. Larger output capacitors will be required for applications with large transient loads to limit peak (See Datasheet)", 4 OUT (power) "Output. The output supplies power to the load. A minimum output capacitor of 10uF is required to prevent oscillations. Larger output capacitors will be required for applications with large transient loads to limit peak (See Datasheet)", 5 OUT (power) "Output. The output supplies power to the load. A minimum output capacitor of 10uF is required to prevent oscillations. Larger output capacitors will be required for applications with large transient loads to limit peak (See Datasheet)", 6 SENSE (in), 7 GND (power), 8 GND (power), 9 GND (power), 10 ~{SHDN} (in), 11 NC, 12 IN (power), 13 IN (power), 14 IN (power), 15 NC, 16 GND (power), 17 EP (power)

## LT1963AEFE-1.5#TRPBF
designator U?
1.5 A, Low Noise, Fast Transient Response LDO Regulator, 2.1 to 20 V Vin, 1.5 V Vout, 16-pin SOP (FE-16-EPV-BB), -40 to 125 degC, Pb-Free, Tape and Reel; Manufacturer: Linear Technology; PartNumber: LT1963AEFE-1.5#TRPBF; Discrete Pass Element: no; Dropout Voltage(V): 0.34; Iout(mA): 1500; Isupply(mA): 1; Noise(uV): 40; Output Voltage: 1.5 V; PSRR(dB): 63; Shutdown Current(uA): 0.01; Vin Max(V): 20; Vin Min(V): 2.1; DatasheetVersion: Rev. E; PackageVersion: Rev. J, 11/2012; PackageReference: FE-16; PackageDescription: 16-Pin Plastic TSSOP, Body 5 x 4.4 mm, Pitch 0.65 mm; Supplier 1: Digi-Key; Supplier Part Number 1: LT1963AEFE-1.5#TRPBF-ND; Number of Outputs: 1; Packing: Tape and Reel; RoHS: TRUE; Mounting Technology: Surface Mount; ComponentLink1Description: Manufacturer URL; ComponentLink1URL: http://www.linear.com/; ComponentLink2Description: Datasheet; ComponentLink2URL: http://cds.linear.com/docs/en/datasheet/1963afe.pdf; ComponentLink3Description: Package Specification; ComponentLink3URL: http://cds.linear.com/docs/en/packaging/05081663__J_FE16(BB).pdf
footprint LT-FE-16-EPV-BB_N (SOP, 16-Leads, Body 5.1x4.5mm, Pitch 0.65mm, Thermal Pad 3.58x2.94mm, IPC Medium Density)
footprint LT-FE-16-EPV-BB_L (SOP, 16-Leads, Body 5.1x4.5mm, Pitch 0.65mm, Thermal Pad 3.58x2.94mm, IPC High Density)
footprint LT-FE-16-EPV-BB_M (SOP, 16-Leads, Body 5.1x4.5mm, Pitch 0.65mm, Thermal Pad 3.58x2.94mm, IPC Low Density)
pins: 1 GND (power), 2 NC, 3 OUT (power) "Output. The output supplies power to the load. A minimum output capacitor of 10uF is required to prevent oscillations. Larger output capacitors will be required for applications with large transient loads to limit peak (See Datasheet)", 4 OUT (power) "Output. The output supplies power to the load. A minimum output capacitor of 10uF is required to prevent oscillations. Larger output capacitors will be required for applications with large transient loads to limit peak (See Datasheet)", 5 OUT (power) "Output. The output supplies power to the load. A minimum output capacitor of 10uF is required to prevent oscillations. Larger output capacitors will be required for applications with large transient loads to limit peak (See Datasheet)", 6 SENSE (in), 7 GND (power), 8 GND (power), 9 GND (power), 10 ~{SHDN} (in), 11 NC, 12 IN (power), 13 IN (power), 14 IN (power), 15 NC, 16 GND (power), 17 EP (power)

## LT1963AEFE-1.8
designator U?
1.5 A, Low Noise, Fast Transient Response LDO Regulator, 2.1 to 20 V Vin, 1.8 V Vout, 16-pin SOP (FE-16-EPV-BB), -40 to 125 degC; Manufacturer: Linear Technology; PartNumber: LT1963AEFE-1.8; Discrete Pass Element: no; Dropout Voltage(V): 0.34; Iout(mA): 1500; Isupply(mA): 1; Noise(uV): 40; Output Voltage: 1.8 V; PSRR(dB): 63; Shutdown Current(uA): 0.01; Vin Max(V): 20; Vin Min(V): 2.1; DatasheetVersion: Rev. E; PackageVersion: Rev. J, 11/2012; PackageReference: FE-16; PackageDescription: 16-Pin Plastic TSSOP, Body 5 x 4.4 mm, Pitch 0.65 mm; Supplier 1: Newark; Supplier Part Number 1: 57M7412; Number of Outputs: 1; RoHS: FALSE; Mounting Technology: Surface Mount; ComponentLink1Description: Manufacturer URL; ComponentLink1URL: http://www.linear.com/; ComponentLink2Description: Datasheet; ComponentLink2URL: http://cds.linear.com/docs/en/datasheet/1963afe.pdf; ComponentLink3Description: Package Specification; ComponentLink3URL: http://cds.linear.com/docs/en/packaging/05081663__J_FE16(BB).pdf
footprint LT-FE-16-EPV-BB_N (SOP, 16-Leads, Body 5.1x4.5mm, Pitch 0.65mm, Thermal Pad 3.58x2.94mm, IPC Medium Density)
footprint LT-FE-16-EPV-BB_L (SOP, 16-Leads, Body 5.1x4.5mm, Pitch 0.65mm, Thermal Pad 3.58x2.94mm, IPC High Density)
footprint LT-FE-16-EPV-BB_M (SOP, 16-Leads, Body 5.1x4.5mm, Pitch 0.65mm, Thermal Pad 3.58x2.94mm, IPC Low Density)
pins: 1 GND (power), 2 NC, 3 OUT (power) "Output. The output supplies power to the load. A minimum output capacitor of 10uF is required to prevent oscillations. Larger output capacitors will be required for applications with large transient loads to limit peak (See Datasheet)", 4 OUT (power) "Output. The output supplies power to the load. A minimum output capacitor of 10uF is required to prevent oscillations. Larger output capacitors will be required for applications with large transient loads to limit peak (See Datasheet)", 5 OUT (power) "Output. The output supplies power to the load. A minimum output capacitor of 10uF is required to prevent oscillations. Larger output capacitors will be required for applications with large transient loads to limit peak (See Datasheet)", 6 SENSE (in), 7 GND (power), 8 GND (power), 9 GND (power), 10 ~{SHDN} (in), 11 NC, 12 IN (power), 13 IN (power), 14 IN (power), 15 NC, 16 GND (power), 17 EP (power)

## LT1963AEFE-1.8#PBF
designator U?
1.5 A, Low Noise, Fast Transient Response LDO Regulator, 2.1 to 20 V Vin, 1.8 V Vout, 16-pin SOP (FE-16-EPV-BB), -40 to 125 degC, Pb-Free; Manufacturer: Linear Technology; PartNumber: LT1963AEFE-1.8#PBF; Discrete Pass Element: no; Dropout Voltage(V): 0.34; Iout(mA): 1500; Isupply(mA): 1; Noise(uV): 40; Output Voltage: 1.8 V; PSRR(dB): 63; Shutdown Current(uA): 0.01; Vin Max(V): 20; Vin Min(V): 2.1; DatasheetVersion: Rev. E; PackageVersion: Rev. J, 11/2012; PackageReference: FE-16; PackageDescription: 16-Pin Plastic TSSOP, Body 5 x 4.4 mm, Pitch 0.65 mm; Supplier 1: Digi-Key; Supplier Part Number 1: LT1963AEFE-1.8#PBF-ND; Supplier 2: Farnell; Supplier Part Number 2: 2254860; Supplier 3: Newark; Supplier Part Number 3: 57M7413; Number of Outputs: 1; RoHS: TRUE; Mounting Technology: Surface Mount; ComponentLink1Description: Manufacturer URL; ComponentLink1URL: http://www.linear.com/; ComponentLink2Description: Datasheet; ComponentLink2URL: http://cds.linear.com/docs/en/datasheet/1963afe.pdf; ComponentLink3Description: Package Specification; ComponentLink3URL: http://cds.linear.com/docs/en/packaging/05081663__J_FE16(BB).pdf
footprint LT-FE-16-EPV-BB_N (SOP, 16-Leads, Body 5.1x4.5mm, Pitch 0.65mm, Thermal Pad 3.58x2.94mm, IPC Medium Density)
footprint LT-FE-16-EPV-BB_L (SOP, 16-Leads, Body 5.1x4.5mm, Pitch 0.65mm, Thermal Pad 3.58x2.94mm, IPC High Density)
footprint LT-FE-16-EPV-BB_M (SOP, 16-Leads, Body 5.1x4.5mm, Pitch 0.65mm, Thermal Pad 3.58x2.94mm, IPC Low Density)
pins: 1 GND (power), 2 NC, 3 OUT (power) "Output. The output supplies power to the load. A minimum output capacitor of 10uF is required to prevent oscillations. Larger output capacitors will be required for applications with large transient loads to limit peak (See Datasheet)", 4 OUT (power) "Output. The output supplies power to the load. A minimum output capacitor of 10uF is required to prevent oscillations. Larger output capacitors will be required for applications with large transient loads to limit peak (See Datasheet)", 5 OUT (power) "Output. The output supplies power to the load. A minimum output capacitor of 10uF is required to prevent oscillations. Larger output capacitors will be required for applications with large transient loads to limit peak (See Datasheet)", 6 SENSE (in), 7 GND (power), 8 GND (power), 9 GND (power), 10 ~{SHDN} (in), 11 NC, 12 IN (power), 13 IN (power), 14 IN (power), 15 NC, 16 GND (power), 17 EP (power)